# Altium footprint library heatsink.PcbLib: 1 footprints
Each footprint in its own frame and in the unit in brackets; x right, y up, seen from the top. Pads: shape width x height; smd on the part's side, far side on the other; paste and mask are expansions set on the pad; w line width, h text height; cw(c..) or ccw(c..) is an arc to the next point about the centre after c.
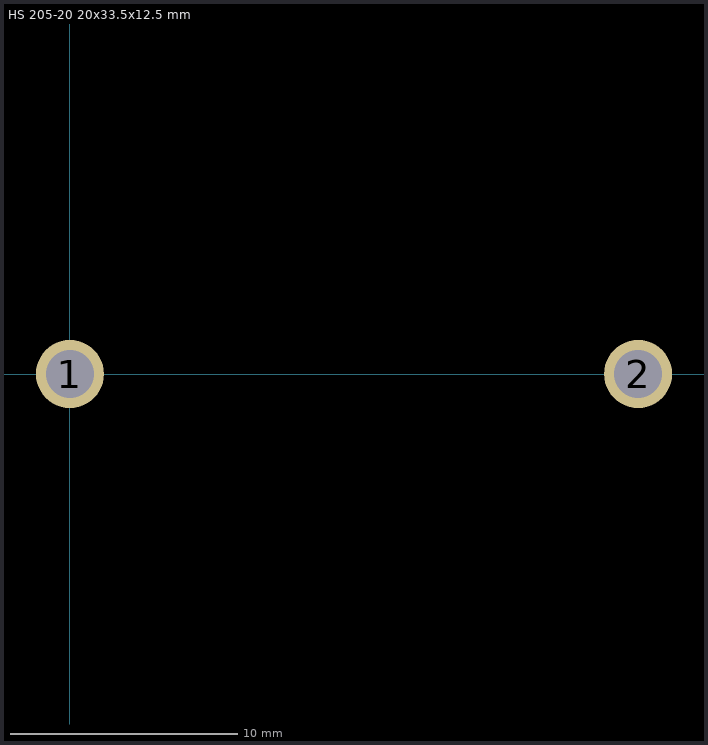
[diagram p0: the footprint, top view; thin cyan lines are the x and y axes]

## HS 205-20 20x33.5x12.5 mm [mm]
pads (2):
  round 3 hole 2.1: 1(0,0) 2(25,0)
3D body "HS 205-20 20x33.5x12.5 mm.stp": height 20, standoff 0, extent -4.517,-6.242 29.5,6.542